# Altium footprint library Buffer.PcbLib: 1 footprints
Each footprint in its own frame and in the unit in brackets; x right, y up, seen from the top. Pads: shape width x height; smd on the part's side, far side on the other; paste and mask are expansions set on the pad; w line width, h text height; cw(c..) or ccw(c..) is an arc to the next point about the centre after c.
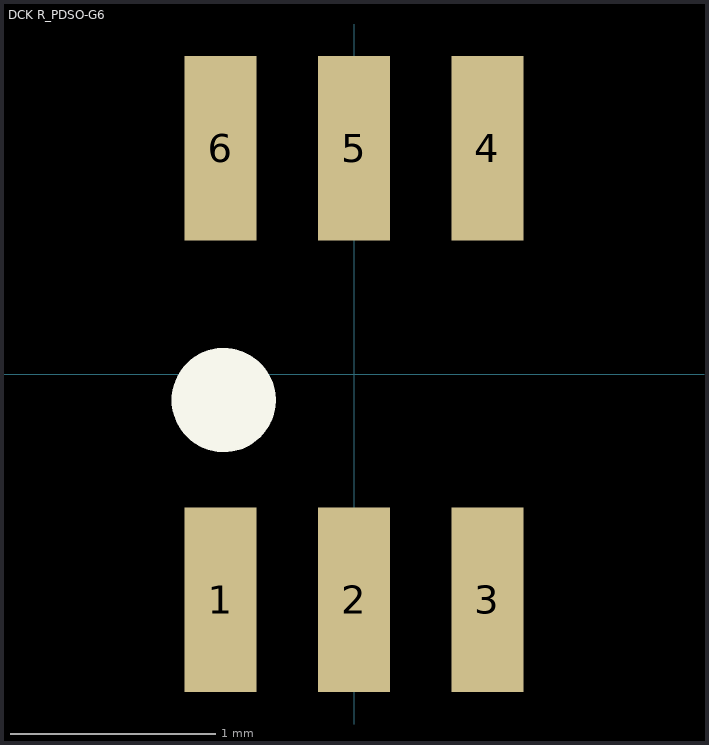
[diagram p0: the footprint, top view; thin cyan lines are the x and y axes]

## DCK R_PDSO-G6 [mm]
pads (6):
  rect 0.35x0.9 smd: 1(-0.65,-1.1) 2(0,-1.1) 3(0.65,-1.1) 4(0.65,1.1) 5(0,1.1) 6(-0.65,1.1)
Top Overlay:
  circle w0.254: c-0.635,-0.127 r0.127
3D body: height 1.1, standoff 0, extent -1,-1.1 1,1.1